# EAGLE library part 2616-3112/020-000 (library con-wago_2616)
Stand: 01.01.2017. Die jeweils aktuellen Daten zu diesem Artikel finden Sie in unserem Produktkatalog, den Sie unter www.wago.com einsehen können. As of: 01/01/2017. Please find the newest data for this article in our product catalogue, which can be viewed under www.wago.com.
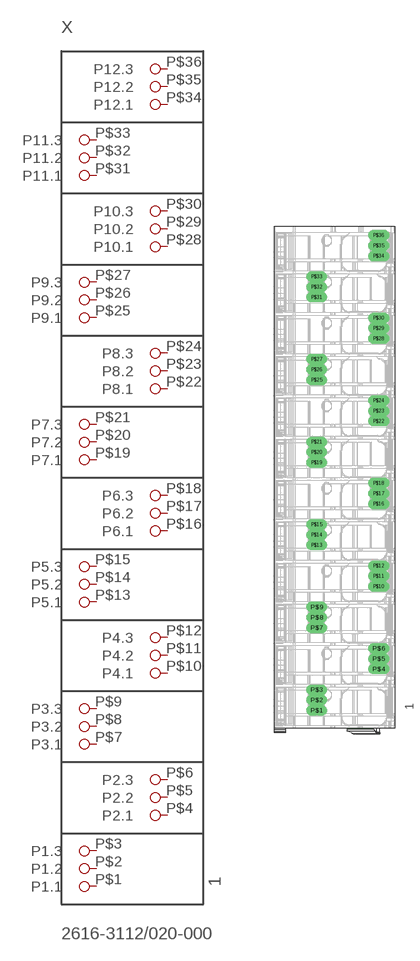
[diagram p12: symbol with the pads of P-2616-3112/020-000; footprint P-2616-3112/020-000]

Designator prefix X

## 2616-3112/020-000  [P-2616-3112/020-000]
P$1  P1.1
P$2  P1.2
P$3  P1.3
P$4  P2.1
P$5  P2.2
P$6  P2.3
P$7  P3.1
P$8  P3.2
P$9  P3.3
P$10  P4.1
P$11  P4.2
P$12  P4.3
P$13  P5.1
P$14  P5.2
P$15  P5.3
P$16  P6.1
P$17  P6.2
P$18  P6.3
P$19  P7.1
P$20  P7.2
P$21  P7.3
P$22  P8.1
P$23  P8.2
P$24  P8.3
P$25  P9.1
P$26  P9.2
P$27  P9.3
P$28  P10.1
P$29  P10.2
P$30  P10.3
P$31  P11.1
P$32  P11.2
P$33  P11.3
P$34  P12.1
P$35  P12.2
P$36  P12.3

## Footprint P-2616-3112/020-000 (pad centres in mm)
drill 1.7 long: P$1 -4.235,-55.7; P$2 -4.235,-53.2; P$3 -4.235,-50.7; P$4 10.765,-45.7; P$5 10.765,-43.2; P$6 10.765,-40.7; P$7 -4.235,-35.7; P$8 -4.235,-33.2; P$9 -4.235,-30.7; P$10 10.765,-25.7; P$11 10.765,-23.2; P$12 10.765,-20.7; P$13 -4.235,-15.7; P$14 -4.235,-13.2; P$15 -4.235,-10.7; P$16 10.765,-5.7; P$17 10.765,-3.2; P$18 10.765,-0.7; P$19 -4.235,4.3; P$20 -4.235,6.8; P$21 -4.235,9.3; P$22 10.765,14.3; P$23 10.765,16.8; P$24 10.765,19.3; P$25 -4.235,24.3; P$26 -4.235,26.8; P$27 -4.235,29.3; P$28 10.765,34.3; P$29 10.765,36.8; P$30 10.765,39.3; P$31 -4.235,44.3; P$32 -4.235,46.8; P$33 -4.235,49.3; P$34 10.765,54.3; P$35 10.765,56.8; P$36 10.765,59.3